# Altium schematic symbol library Opto.SchLib: 7 symbols
Pins are listed as number, name and electrical type; pins without a type are passive.

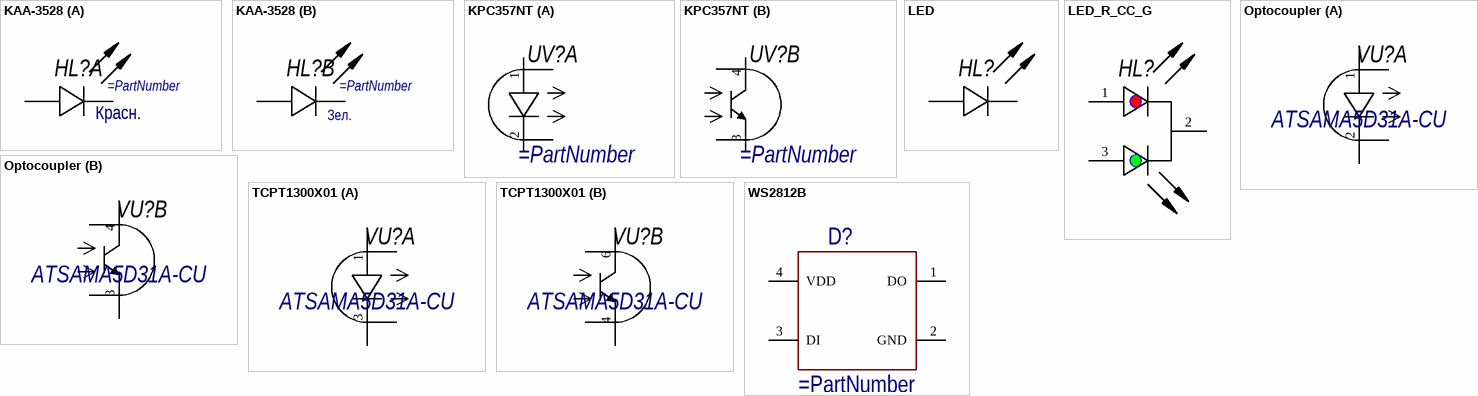
[diagram p0: symbols KAA-3528 to WS2812B]

## KAA-3528
designator HL?
part A pins: 1 C, 2 A
part B pins: 3 C, 4 A
part A text: Красн.
part B text: Зел.

## KPC357NT
designator UV?
part A pins: 1 An, 2 Cat
part B pins: 3 Em, 4 Col

## LED
designator HL?
pins: 1 A, 2 C

## LED_R_CC_G
designator HL?
pins: 1 A, 2 C, 3 A

## Optocoupler
designator VU?, comment ATSAMA5D31A-CU
PartLabel: ATSAMA5D31A-CU каталог; PartNumber: ATSAMA5D31A-CU; Mount: Yes
part A pins: 1 An, 2 Cat
part B pins: 3 Em, 4 Col

## TCPT1300X01
designator VU?, comment ATSAMA5D31A-CU
PartLabel: ATSAMA5D31A-CU каталог; PartNumber: ATSAMA5D31A-CU; Mount: Yes
part A pins: 1 An, 3 Cat
part B pins: 4 Em, 6 Col

## WS2812B
designator D?
Intelligent control LED / integrated light source
pins: 1 DO, 2 GND, 3 DI, 4 VDD